# Altium schematic symbol library Schlib1.SchLib: 45 symbols
Pins are listed as number, name and electrical type; pins without a type are passive.

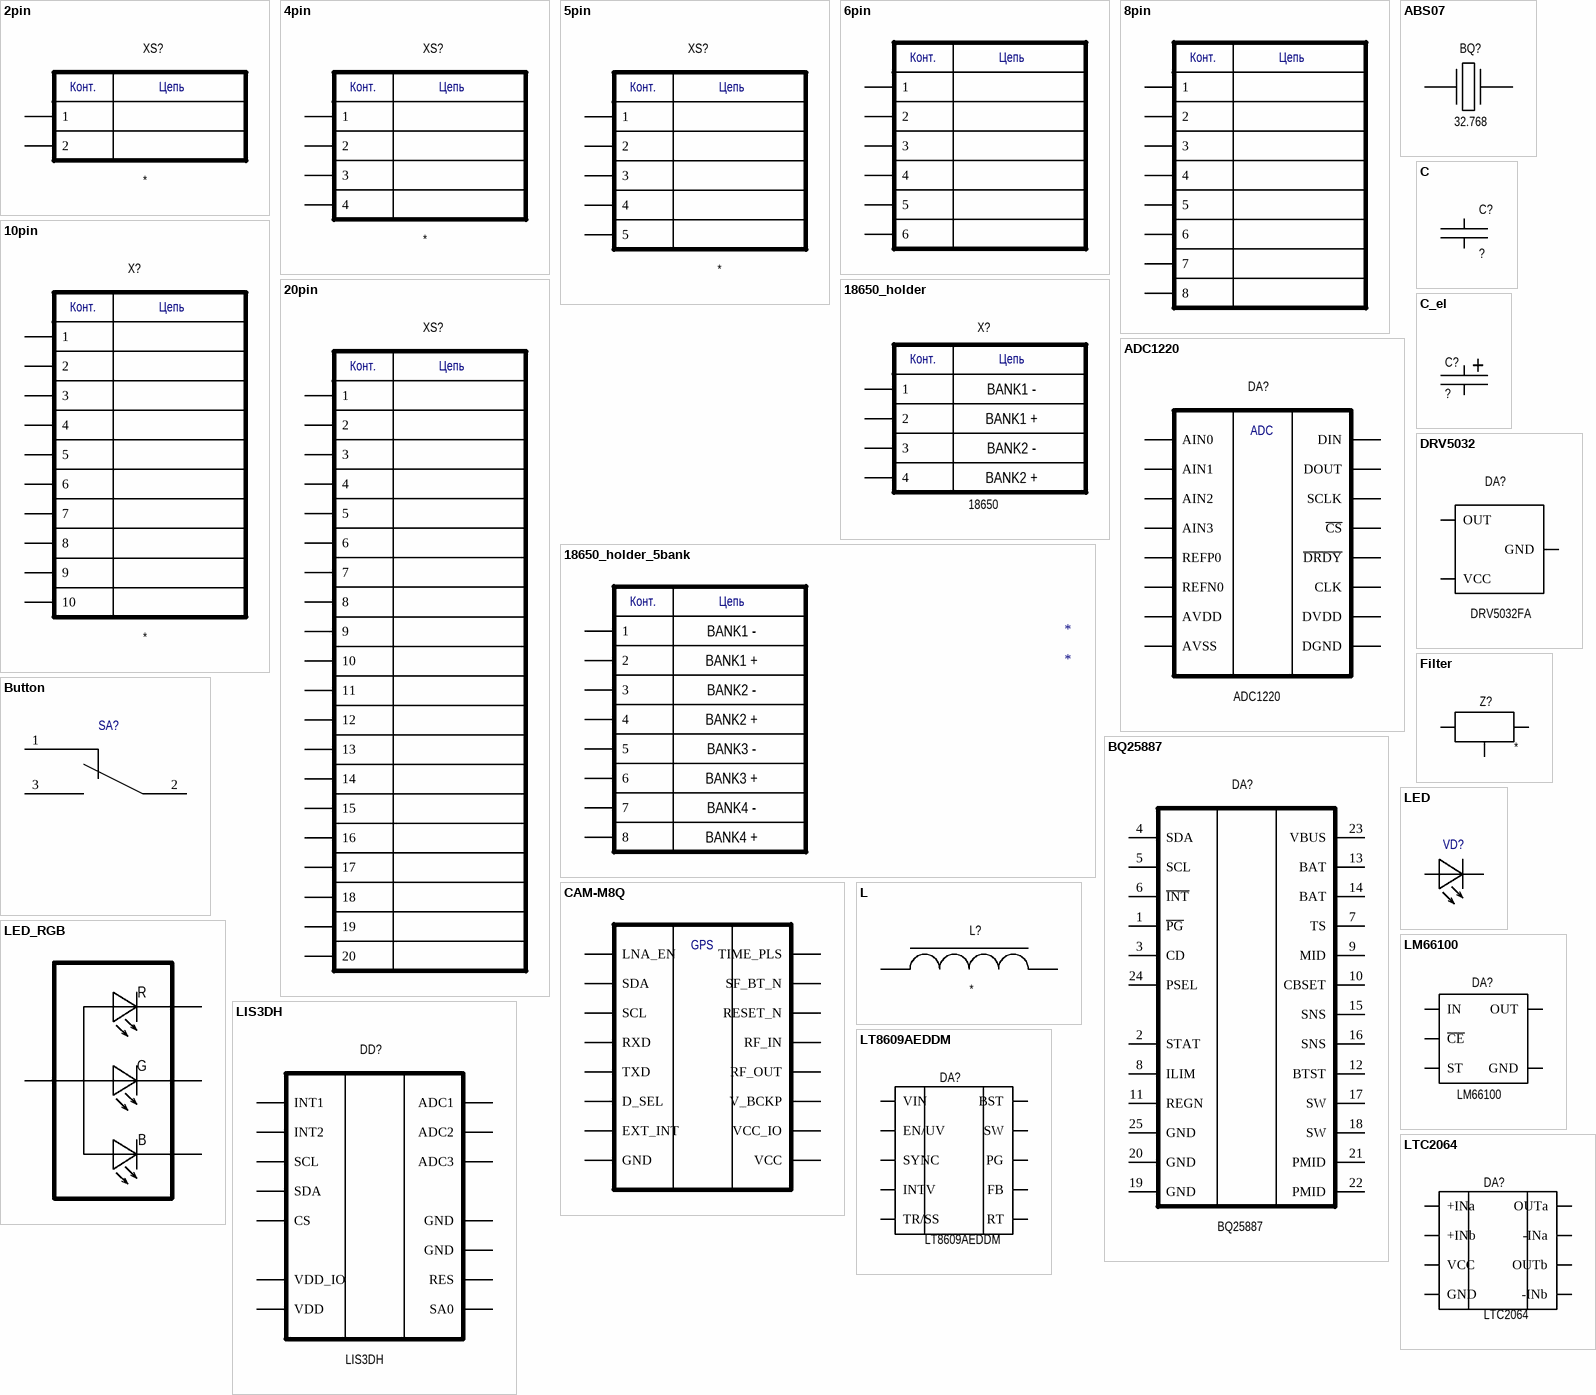
[diagram p0: symbols 2pin to LTC2064]

## 2pin
designator XS?
footprint PLS-2
pins: 1, 2
text: Конт.; Цепь

## 4pin
designator XS?
footprint СI1104М1V (4pin)
footprint PLS-4
pins: 1, 2, 3, 4
text: Конт.; Цепь

## 5pin
designator XS?
footprint СI1105М1V (5pin)
footprint PLS-5
pins: 1, 2, 3, 4, 5
text: Конт.; Цепь

## 6pin
designator *  (value not drawn)
footprint СI1106М1V (6pin)
pins: 1, 2, 3, 4, 5, 6
text: Конт.; Цепь

## 8pin
designator *  (value not drawn)
footprint СI1108М1V (8pin)
pins: 1, 2, 3, 4, 5, 6, 7, 8
text: Конт.; Цепь

## 10pin
designator X?
footprint СI1110М1V (8pin)
pins: 1, 2, 3, 4, 5, 6, 7, 8, 9, 10
text: Конт.; Цепь

## 20pin
designator XS?  (value not drawn)
footprint 20P-JMDSS-G-1-TF (20 pin plug)
footprint 20R-JMDSS-G-1-TF (20 pin Receptacle)
pins: 1, 2, 3, 4, 5, 6, 7, 8, 9, 10, 11, 12, 13, 14, 15, 16, 17, 18, 19, 20
text: Конт.; Цепь

## 18650_holder
designator X?, comment 18650
footprint 18650_holder
pins: 1, 2, 3, 4
text: Конт.; Цепь; BANK1 -; BANK1 +; BANK2 -; BANK2 +

## 18650_holder_5bank
designator *
pins: 1, 2, 3, 4, 5, 6, 7, 8
text: Конт.; Цепь; BANK1 -; BANK1 +; BANK2 -; BANK2 +; BANK3 -; BANK3 +; BANK4 -; BANK4 +

## ABS07
designator BQ?  value 32.768  (hidden comment: ABS07)
footprint ABS07 (32.768)
pins: 1, 2

## ADC1220
designator DA?
footprint TSSOP-16
pins: 1 SCLK, 2 ~{CS}, 3 CLK, 4 DGND, 5 AVSS, 6 AIN3, 7 AIN2, 8 REFN0, 9 REFP0, 10 AIN1, 11 AIN0, 12 AVDD, 13 DVDD, 14 ~{DRDY}, 15 DOUT, 16 DIN
text: ADC

## BQ25887
designator DA?
footprint VQFN-24
pins: 1 ~{PG}, 2 STAT, 3 CD, 4 SDA, 5 SCL, 6 ~{INT}, 7 TS, 8 ILIM, 9 MID, 10 CBSET, 11 REGN, 12 BTST, 13 BAT, 14 BAT, 15 SNS, 16 SNS, 17 SW, 18 SW, 19 GND, 20 GND, 21 PMID, 22 PMID, 23 VBUS, 24 PSEL, 25 GND

## Button
designator SA?  (value not drawn)
footprint 8BS81 (Button)
pins: 1, 2, 3

## C
designator C?  (value not drawn)
Value: ?
footprint С0603
pins: 1, 2

## C_el
designator C?  (value not drawn)
Value: ?
footprint Case A
pins: 1, 2
text: +

## CAM-M8Q
designator *  (value not drawn)
footprint CAM-M8Q
pins: 1 VCC_IO, 3 SDA, 4 GND, 5 GND hidden to GND, 6 SCL, 7 EXT_INT, 8 V_BCKP, 9 VCC, 10 GND hidden to GND, 11 GND hidden to GND, 12 GND hidden to GND, 13 GND hidden to GND, 14 GND hidden to GND, 15 GND hidden to GND, 16 RF_OUT, 17 RF_IN, 18 GND hidden to GND, 19 GND hidden to GND, 20 D_SEL, 21 GND hidden to GND, 22 GND hidden to GND, 23 RESET_N, 24 SF_BT_N, 25 TXD, 26 RXD, 27 GND hidden to GND, 29 TIME_PLS, 30 LNA_EN, 31 GND hidden to GND
text: GPS

## DRV5032
designator DA?, comment DRV5032FA
footprint SOT-23
pins: 1 VCC, 2 OUT, 3 GND

## Filter
designator Z?
footprint NFE61P
pins: 1, 2, 3 GND

## L
designator L?
footprint Ind_6.5x6.5
pins: 1, 2

## LED
designator VD?
footprint LED_0805
pins: 1 A, 2 C

## LED_RGB
designator VD?, comment FYLS-3528RGBC  (value not drawn)
footprint LED_RGB
pins: 1, 2, 3, 4
text: R; G; B

## LIS3DH
designator DD?
footprint LGA-16
pins: 1 VDD_IO, 4 SCL, 5 GND, 6 SDA, 7 SA0, 8 CS, 9 INT2, 10 RES, 11 INT1, 12 GND, 13 ADC3, 14 VDD, 15 ADC2, 16 ADC1

## LM66100
designator DA?
footprint SOT-363
pins: 1 IN, 2 GND, 3 ~{CE}, 5 ST, 6 OUT

## LT8609AEDDM
designator DA?
footprint SON-10 (SON, 10-Leads, Body 3,00x3,00mm, Pitch 0,50mm, Thermal Pad 2,40x1,65mm, IPC Medium Density)
pins: 1 BST, 2 SW, 3 INTV, 4 RT, 5 SYNC, 6 FB, 7 TR/SS, 8 PG, 9 VIN, 10 EN/UV

## LTC2064
designator DA?
footprint MSOP8
pins: 1 OUTa, 2 -INa, 3 +INa, 4 GND, 5 +INb, 6 -INb, 7 OUTb, 8 VCC

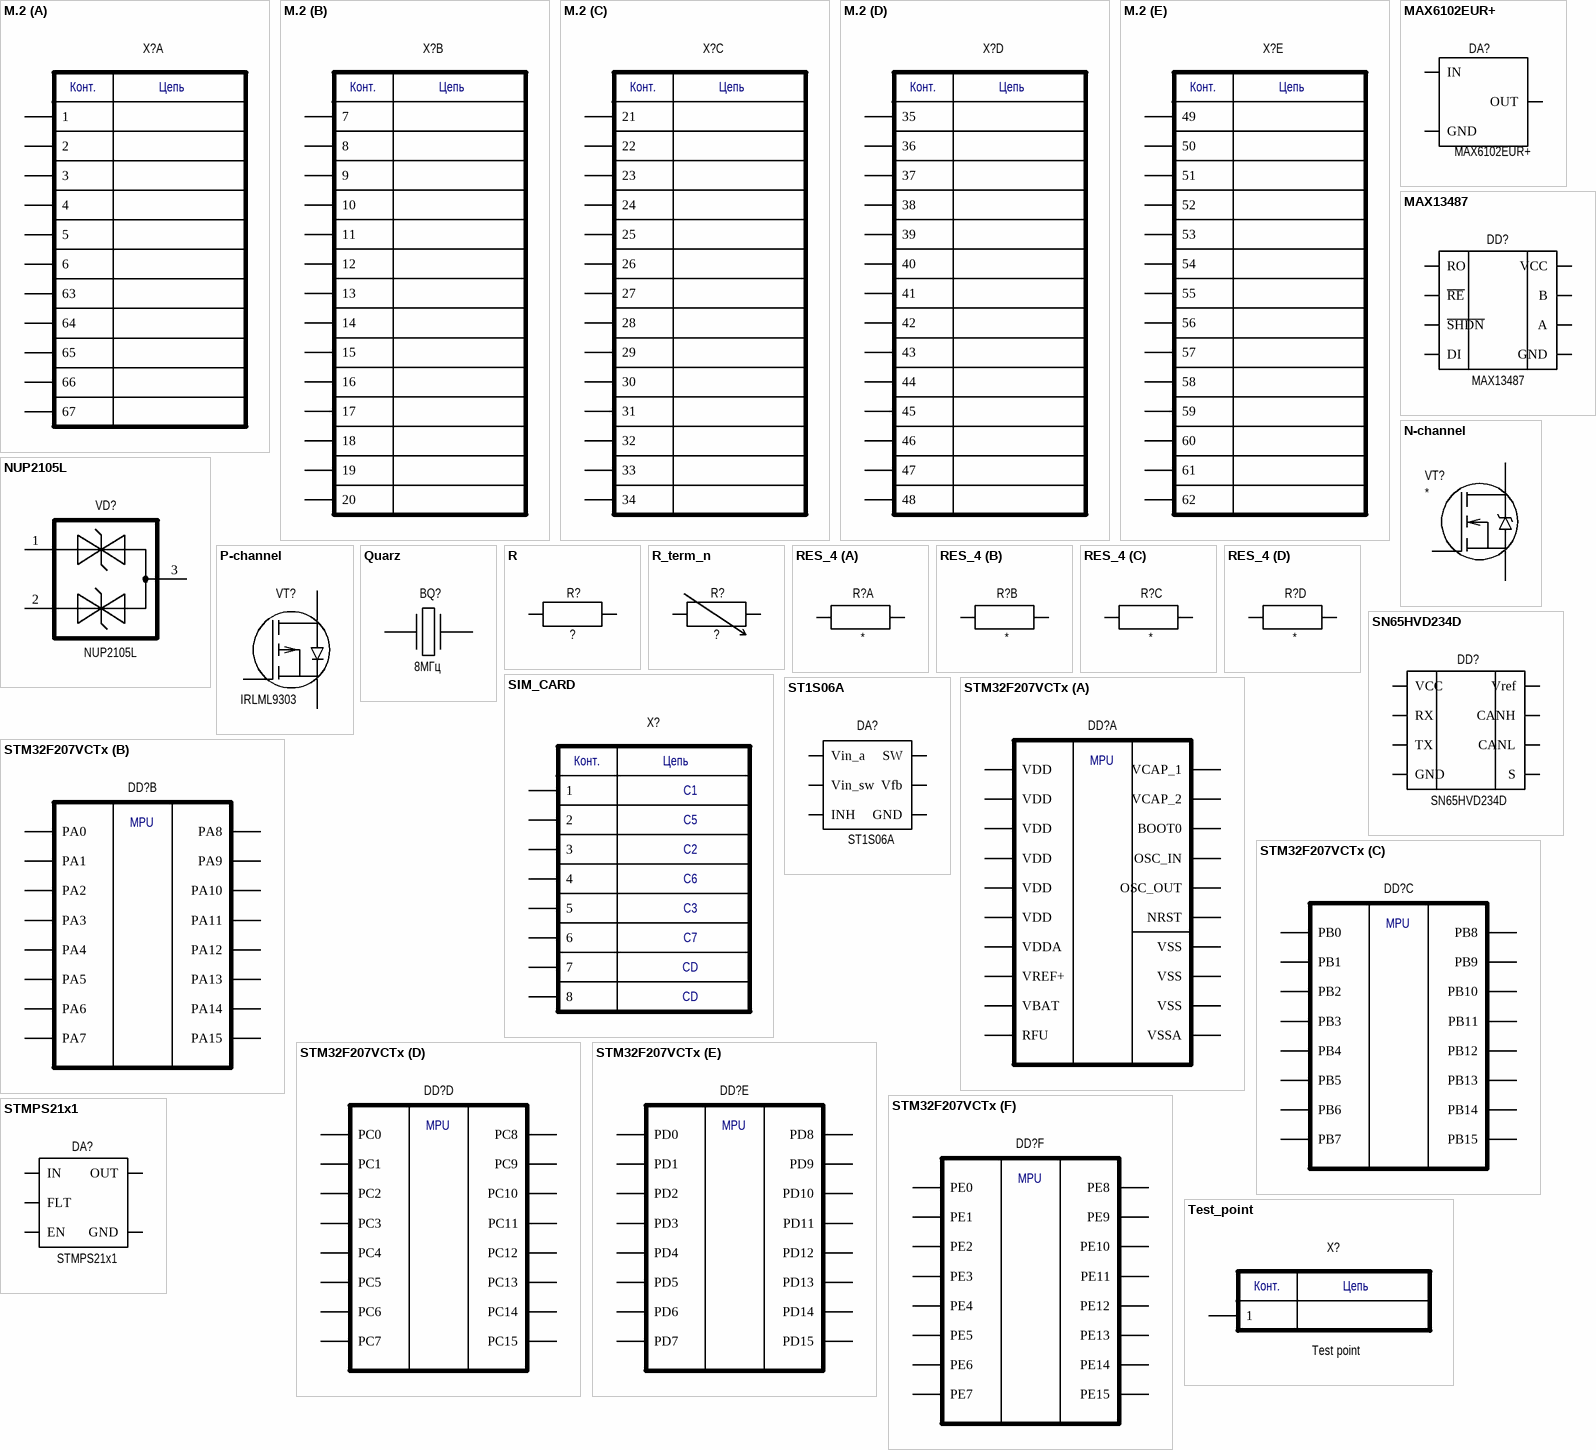
[diagram p1: symbols M.2 to Test_point]

## M.2
designator X?  (value not drawn)
footprint M.2_edge
footprint M.2
footprint M.2_LoRa
footprint M.2_POE
part A pins: 1, 2, 3, 4, 5, 6, 63, 64, 65, 66, 67
part B pins: 7, 8, 9, 10, 11, 12, 13, 14, 15, 16, 17, 18, 19, 20
part C pins: 21, 22, 23, 24, 25, 26, 27, 28, 29, 30, 31, 32, 33, 34
part D pins: 35, 36, 37, 38, 39, 40, 41, 42, 43, 44, 45, 46, 47, 48
part E pins: 49, 50, 51, 52, 53, 54, 55, 56, 57, 58, 59, 60, 61, 62
part A text: Конт.; Цепь
part B text: Конт.; Цепь
part C text: Конт.; Цепь
part D text: Конт.; Цепь
part E text: Конт.; Цепь

## MAX6102EUR+
designator DA?
footprint SOT-23
pins: 1 IN, 2 OUT, 3 GND

## MAX13487
designator DD?
RS485
footprint SOIC8
pins: 1 RO, 2 ~{RE}, 3 ~{SHDN}, 4 DI, 5 GND, 6 A, 7 B, 8 VCC

## N-channel
designator VT?
footprint SOT-23
pins: 1 G, 2 S, 3 D

## NUP2105L
designator VD?
footprint SOT-23
pins: 1 A, 2 C, 3 AC

## P-channel
designator VT?, comment IRLML9303
footprint SOT-23
pins: 1 G, 2 S, 3 D

## Quarz
designator BQ?  value 8МГц
footprint HC-49
footprint Crystal_0532
pins: 1, 2

## R
designator R?  (value not drawn)
Value: ?
footprint R0603
footprint R1206
pins: 1, 2

## R_term_n
designator R?  (value not drawn)
Value: ?
footprint R0603
footprint R1206
pins: 1, 2

## RES_4
designator R?
Value: *
footprint CAT16 (Chip Array, Concave, 8-Leads, Pitch 0,80mm,  Body 3,20x1,55mm,  IPC Medium Density)
part A pins: 1, 8
part B pins: 2, 7
part C pins: 3, 6
part D pins: 4, 5

## SIM_CARD
designator X?  (value not drawn)
footprint SIM_CARD_READER2
pins: 1, 2, 3, 4, 5, 6, 7, 8
text: Конт.; Цепь; С1; С5; С2; С6; С3; C7; CD

## SN65HVD234D
designator DD?
CAN
footprint SOIC8
pins: 1 TX, 2 GND, 3 VCC, 4 RX, 5 Vref, 6 CANL, 7 CANH, 8 S

## ST1S06A
designator DA?
footprint DFN6
pins: 1 Vfb, 2 GND, 3 SW, 4 Vin_sw, 5 Vin_a, 6 INH

## STM32F207VCTx
designator DD?  (value not drawn)
footprint LQFP100
part A pins: 6 VBAT, 10 VSS, 11 VDD, 12 OSC_IN, 13 OSC_OUT, 14 NRST, 19 VDD, 20 VSSA, 21 VREF+, 22 VDDA, 27 VSS, 28 VDD, 49 VCAP_1, 50 VDD, 73 VCAP_2, 74 VSS, 75 VDD, 94 BOOT0, 99 RFU, 100 VDD
part B pins: 23 PA0, 24 PA1, 25 PA2, 26 PA3, 29 PA4, 30 PA5, 31 PA6, 32 PA7, 67 PA8, 68 PA9, 69 PA10, 70 PA11, 71 PA12, 72 PA13, 76 PA14, 77 PA15
part C pins: 35 PB0, 36 PB1, 37 PB2, 47 PB10, 48 PB11, 51 PB12, 52 PB13, 53 PB14, 54 PB15, 89 PB3, 90 PB4, 91 PB5, 92 PB6, 93 PB7, 95 PB8, 96 PB9
part D pins: 7 PC13, 8 PC14, 9 PC15, 15 PC0, 16 PC1, 17 PC2, 18 PC3, 33 PC4, 34 PC5, 63 PC6, 64 PC7, 65 PC8, 66 PC9, 78 PC10, 79 PC11, 80 PC12
part E pins: 55 PD8, 56 PD9, 57 PD10, 58 PD11, 59 PD12, 60 PD13, 61 PD14, 62 PD15, 81 PD0, 82 PD1, 83 PD2, 84 PD3, 85 PD4, 86 PD5, 87 PD6, 88 PD7
part F pins: 1 PE2, 2 PE3, 3 PE4, 4 PE5, 5 PE6, 38 PE7, 39 PE8, 40 PE9, 41 PE10, 42 PE11, 43 PE12, 44 PE13, 45 PE14, 46 PE15, 97 PE0, 98 PE1
part A text: MPU
part B text: MPU
part C text: MPU
part D text: MPU
part E text: MPU
part F text: MPU

## STMPS21x1
designator DA?
footprint SOT-23-5
pins: 1 OUT, 2 GND, 3 FLT, 4 EN, 5 IN

## Test_point
designator X?, comment Test point
footprint Test_point
pins: 1
text: Конт.; Цепь

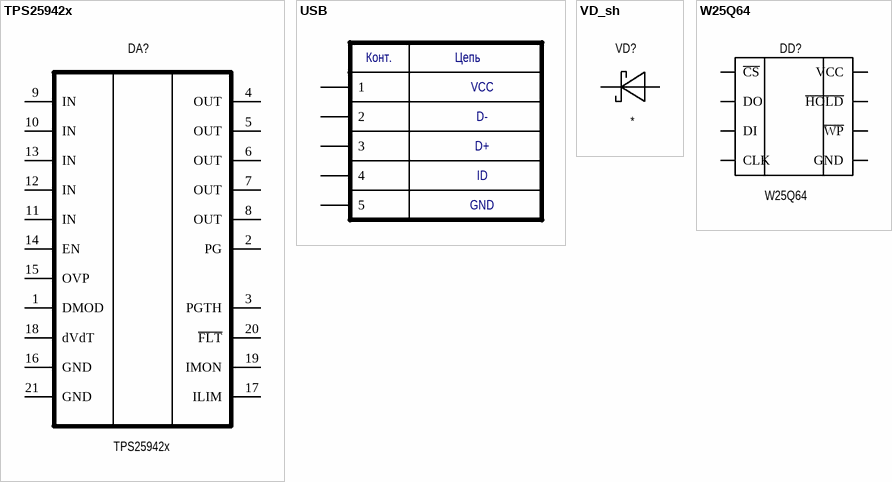
[diagram p2: symbols TPS25942x to W25Q64]

## TPS25942x
designator DA?
footprint WQFN-20
pins: 1 DMOD, 2 PG, 3 PGTH, 4 OUT, 5 OUT, 6 OUT, 7 OUT, 8 OUT, 9 IN, 10 IN, 11 IN, 12 IN, 13 IN, 14 EN, 15 OVP, 16 GND, 17 ILIM, 18 dVdT, 19 IMON, 20 ~{FLT}, 21 GND

## USB
designator *  (value not drawn)
footprint USB-micro
footprint USB_vertical
pins: 1, 2, 3, 4, 5
text: Конт.; Цепь; VCC; D-; D+; ID; GND

## VD_sh
designator VD?
footprint SOD323F
pins: 1 C, 2 A

## W25Q64
designator DD?
footprint SOIC8_208
pins: 1 ~{CS}, 2 DO, 3 ~{WP}, 4 GND, 5 DI, 6 CLK, 7 ~{HOLD}, 8 VCC